# EAGLE library part 61201421621 (library 61201421621)
Wurth Elektronik 6120 Series, 2.54mm Pitch 14 Way 2 Row Straight PCB Header, Solder Termination, 3A Source: Datasheet <https://componentsearchengine.com/Datasheets/2/61201421621.pdf>
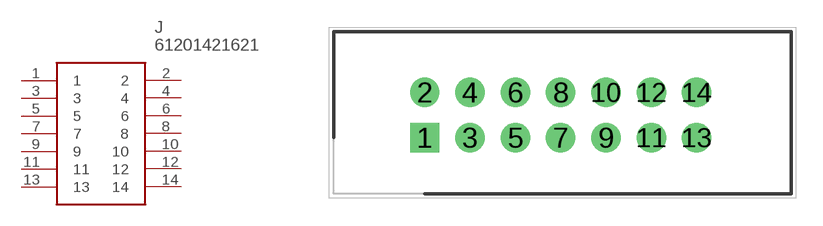
[diagram p0: symbol with the pads of RHDR14W64P254_2X7_2544X910X885; footprint RHDR14W64P254_2X7_2544X910X885]

Designator prefix J

## 61201421621 (Description: Wurth Elektronik 6120 Series, 2.54mm Pitch 14 Way 2 Row Straight PCB Header, Solder Termination, 3A; Height: 8.85mm; Manufacturer_Name: Wurth Elektronik; Manufacturer_Part_Number: 61201421621; Mouser_Part_Number: 710-61201421621; Mouser_Price-Stock: https://www.mouser.co.uk/ProductDetail/Wurth-Elektronik/61201421621?qs=PhR8RmCirEYw8YsJCWHDPw%3D%3D)  [RHDR14W64P254_2X7_2544X910X885]
1  1
2  2
3  3
4  4
5  5
6  6
7  7
8  8
9  9
10  10
11  11
12  12
13  13
14  14

## Footprint RHDR14W64P254_2X7_2544X910X885 (pad centres in mm)
61201421621
drill 1.1 pad 1.65 square: 1 0,0
drill 1.1 pad 1.65: 2 0,2.54; 3 2.54,0; 4 2.54,2.54; 5 5.08,0; 6 5.08,2.54; 7 7.62,0; 8 7.62,2.54; 9 10.16,0; 10 10.16,2.54; 11 12.7,0; 12 12.7,2.54; 13 15.24,0; 14 15.24,2.54